# Altium schematic symbol library ADE9153AACPZ.SchLib: 1 symbol
Pins are listed as number, name and electrical type; pins without a type are passive.

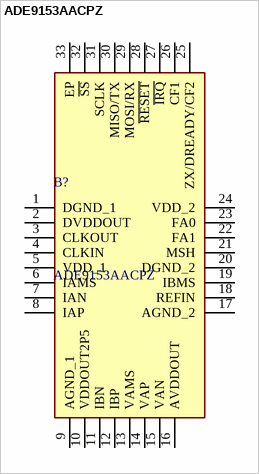
[diagram p0: symbol ADE9153AACPZ]

## ADE9153AACPZ
designator B?
Data Acquisition ADCs/DACs - Specialized 1 PH Mtr IC w/ Auto Calibration; Manufacturer_Name: Analog Devices; Geometry.Height: 0.8mm; Mouser Part Number: 584-ADE9153AACPZ; Mouser Price/Stock: https://www.mouser.co.uk/ProductDetail/Analog-Devices/ADE9153AACPZ?qs=rrS6PyfT74fO4%2FDiqnqz3A%3D%3D; Manufacturer_Part_Number: ADE9153AACPZ; Datasheet Link: http://www.analog.com/media/en/technical-documentation/data-sheets/ade9153a.pdf
footprint QFN50P500X500X80-33N-D
pins: 1 DGND_1, 2 DVDDOUT, 3 CLKOUT, 4 CLKIN, 5 VDD_1, 6 IAMS, 7 IAN, 8 IAP, 9 AGND_1, 10 VDDOUT2P5, 11 IBN, 12 IBP, 13 VAMS, 14 VAP, 15 VAN, 16 AVDDOUT, 17 AGND_2, 18 REFIN, 19 IBMS, 20 DGND_2, 21 MSH, 22 FA1, 23 FA0, 24 VDD_2, 25 ZX/DREADY/CF2, 26 CF1, 27 ~{IRQ}, 28 ~{RESET}, 29 MOSI/RX, 30 MISO/TX, 31 SCLK, 32 ~{SS}, 33 EP